# Altium schematic symbol library 2020-04-06_13-41-43.SchLib: 2 symbols
Pins are listed as number, name and electrical type; pins without a type are passive.

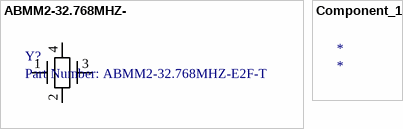
[diagram p0: symbols ABMM2-32.768MHZ- to Component_1]

## ABMM2-32.768MHZ-
designator Y?, comment Part Number: ABMM2-32.768MHZ-E2F-T
No Description Available; Vendor: Abracon; Built_By: EMA_UL_Team; SourceLibrary: Abracon_2012_12_18_ABMM2_E; Manufacturer_Part_Number: ABMM2-32.768MHZ-E2F-T; Copyright: Copyright (C) 2018 Accelerated Designs. All rights reserved; RefDes: RefDes; Type: DEV; Value: Value
footprint CRYSTAL_ABMM2_AB
pins: 1, 2, 3, 4

## Component_1
designator *